# EAGLE library part MCP2551 (library SPCoast)
MCP2551 High-Speed CAN Transceiver
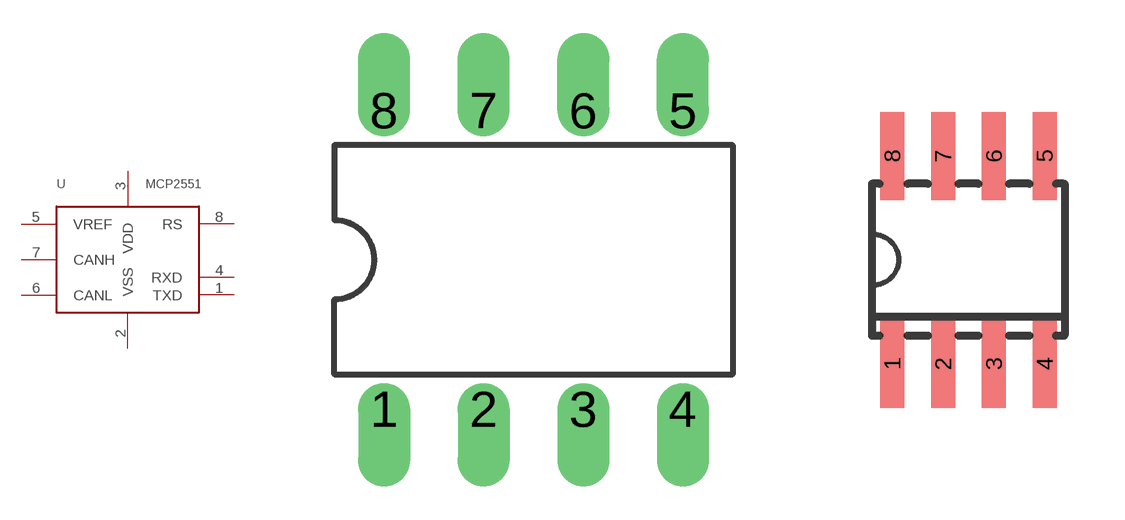
[diagram p14: symbol with the pads of DIL08; footprints DIL08, SO-08]

Designator prefix U

## MCP2551-P  [DIL08]
1  TXD
2  VSS  pwr
3  VDD  pwr
4  RXD
5  VREF
6  CANL
7  CANH
8  RS

## MCP2551-SN  [SO-08]
Pads as for DIL08

## Footprint DIL08 (pad centres in mm)
Dual In Line Package
drill 0.813 offset: 1 -3.81,-3.81; 2 -1.27,-3.81; 3 1.27,-3.81; 4 3.81,-3.81; 5 3.81,3.81; 6 1.27,3.81; 7 -1.27,3.81; 8 -3.81,3.81

## Footprint SO-08 (pad centres in mm)
Small Outline Narrow Plastic Gull Wing 150-mil body, package type SN
smd 0.6 x 2.2: 1 -1.905,-2.6; 2 -0.635,-2.6; 3 0.635,-2.6; 4 1.905,-2.6; 5 1.905,2.6; 6 0.635,2.6; 7 -0.635,2.6; 8 -1.905,2.6